# Altium schematic symbol library IPM-365.SchLib: 1 symbol
Pins are listed as number, name and electrical type; pins without a type are passive.

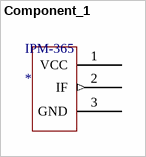
[diagram p0: symbol Component_1]

## Component_1
designator IPM-365
footprint PCBComponent_1
pins: 1 VCC (power), 2 IF (out), 3 GND (power)